# Altium schematic symbol library kmilo17pet-TI_RS232.SchLib: 1272 symbols (part 8 of 37)
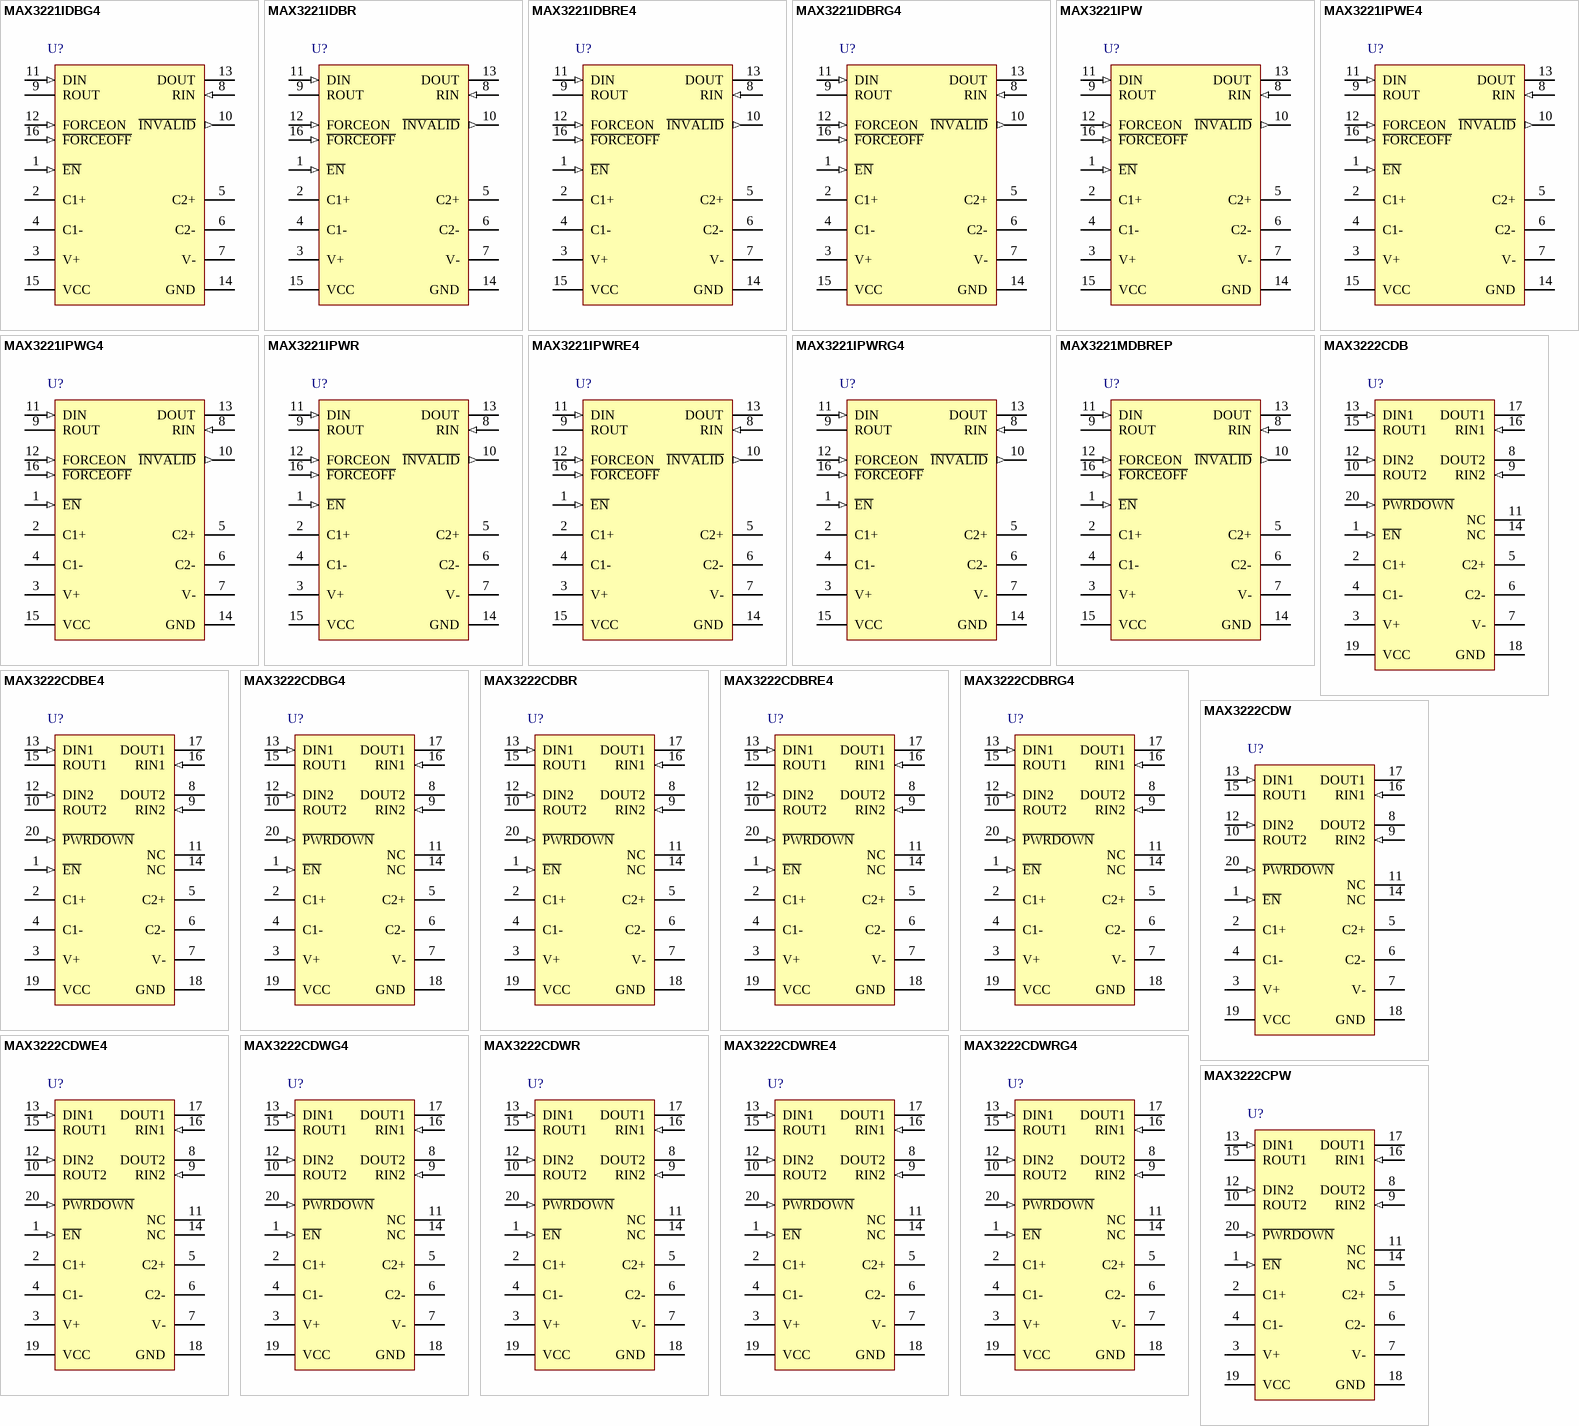
[diagram p61: symbols MAX3221IDBG4 to MAX3222CPW]

## MAX3222CDBRE4
designator U?
3-V to 5.5-V Multichannel RS-232 Line Driver / Receiver with ±15-kV ESD Protection, 0 to 70 degC, 20-Pin SSOP (DB), Green (RoHS & no Sb/Br); Drivers Per Package: 2; Supply Voltage(s)(V): 3.3 or 5.0; ESD HBM(kV): +/-15; ICC(Max)(mA): 1; Single Supply: TRUE; DatasheetVersion: SLLS408G; PackageVersion: revE, Dec-2001; PackageReference: DB20; PackageDescription: 20-Pin Plastic Small Outline Package, 7.2 x 5.3 mm Body, 0.65 mm Pitch; SubFamily: RS-232; Receivers Per Package: 2; RS-232: TRUE; ComponentLink1Description: Manufacturer URL; ComponentLink1URL: www.ti.com; ComponentLink2Description: Datasheet; ComponentLink2URL: http://www.ti.com/general/docs/lit/getliterature.tsp?genericPartNumber=MAX3222&fileType=pdf; ComponentLink3Description: Package Specification; ComponentLink3URL: http://www.ti.com/litv/pdf/msso002e
footprint TI-DB20_N (SOP, 20-Leads, Body 7.2x5.3mm, Pitch 0.65mm, IPC Medium Density)
footprint TI-DB20_L (SOP, 20-Leads, Body 7.2x5.3mm, Pitch 0.65mm, IPC High Density)
footprint TI-DB20_M (SOP, 20-Leads, Body 7.2x5.3mm, Pitch 0.65mm, IPC Low Density)
pins: 1 ~{EN} (in), 2 C1+, 3 V+ (power), 4 C1-, 5 C2+, 6 C2-, 7 V- (power), 8 DOUT2 (hiz), 9 RIN2 (in), 10 ROUT2 (hiz), 11 NC, 12 DIN2 (in), 13 DIN1 (in), 14 NC, 15 ROUT1 (hiz), 16 RIN1 (in), 17 DOUT1 (hiz), 18 GND (power), 19 VCC (power), 20 ~{PWRDOWN} (in)

## MAX3222CDBRG4
designator U?
3-V to 5.5-V Multichannel RS-232 Line Driver / Receiver with ±15-kV ESD Protection, 0 to 70 degC, 20-Pin SSOP (DB), Green (RoHS & no Sb/Br); Drivers Per Package: 2; Supply Voltage(s)(V): 3.3 or 5.0; ESD HBM(kV): +/-15; ICC(Max)(mA): 1; Single Supply: TRUE; DatasheetVersion: SLLS408G; PackageVersion: revE, Dec-2001; PackageReference: DB20; PackageDescription: 20-Pin Plastic Small Outline Package, 7.2 x 5.3 mm Body, 0.65 mm Pitch; SubFamily: RS-232; Receivers Per Package: 2; RS-232: TRUE; ComponentLink1Description: Manufacturer URL; ComponentLink1URL: www.ti.com; ComponentLink2Description: Datasheet; ComponentLink2URL: http://www.ti.com/general/docs/lit/getliterature.tsp?genericPartNumber=MAX3222&fileType=pdf; ComponentLink3Description: Package Specification; ComponentLink3URL: http://www.ti.com/litv/pdf/msso002e
footprint TI-DB20_N (SOP, 20-Leads, Body 7.2x5.3mm, Pitch 0.65mm, IPC Medium Density)
footprint TI-DB20_L (SOP, 20-Leads, Body 7.2x5.3mm, Pitch 0.65mm, IPC High Density)
footprint TI-DB20_M (SOP, 20-Leads, Body 7.2x5.3mm, Pitch 0.65mm, IPC Low Density)
pins: 1 ~{EN} (in), 2 C1+, 3 V+ (power), 4 C1-, 5 C2+, 6 C2-, 7 V- (power), 8 DOUT2 (hiz), 9 RIN2 (in), 10 ROUT2 (hiz), 11 NC, 12 DIN2 (in), 13 DIN1 (in), 14 NC, 15 ROUT1 (hiz), 16 RIN1 (in), 17 DOUT1 (hiz), 18 GND (power), 19 VCC (power), 20 ~{PWRDOWN} (in)

## MAX3222CDW
designator U?
3-V to 5.5-V Multichannel RS-232 Line Driver / Receiver with ±15-kV ESD Protection, 0 to 70 degC, 20-Pin SOIC (DW), Green (RoHS & no Sb/Br); Drivers Per Package: 2; Supply Voltage(s)(V): 3.3 or 5.0; ESD HBM(kV): +/-15; ICC(Max)(mA): 1; Single Supply: TRUE; DatasheetVersion: SLLS408G; PackageVersion: revG, Jan-2011; PackageReference: DW20; PackageDescription: 20-Pin Plastic Small Outline Integrated Circuit, 12.8 x 7.5 mm, Pitch 1.27 mm Pitch; SubFamily: RS-232; Receivers Per Package: 2; RS-232: TRUE; ComponentLink1Description: Manufacturer URL; ComponentLink1URL: www.ti.com; ComponentLink2Description: Datasheet; ComponentLink2URL: http://www.ti.com/general/docs/lit/getliterature.tsp?genericPartNumber=MAX3222&fileType=pdf; ComponentLink3Description: Package Specification; ComponentLink3URL: http://www.ti.com/litv/pdf/mpds173a
footprint TI-DW20_N (SOIC, 20-Leads, Body 12.8x7.5mm, Pitch 1.27mm, IPC Medium Density)
footprint TI-DW20_L (SOIC, 20-Leads, Body 12.8x7.5mm, Pitch 1.27mm, IPC High Density)
footprint TI-DW20_M (SOIC, 20-Leads, Body 12.8x7.5mm, Pitch 1.27mm, IPC Low Density)
pins: 1 ~{EN} (in), 2 C1+, 3 V+ (power), 4 C1-, 5 C2+, 6 C2-, 7 V- (power), 8 DOUT2 (hiz), 9 RIN2 (in), 10 ROUT2 (hiz), 11 NC, 12 DIN2 (in), 13 DIN1 (in), 14 NC, 15 ROUT1 (hiz), 16 RIN1 (in), 17 DOUT1 (hiz), 18 GND (power), 19 VCC (power), 20 ~{PWRDOWN} (in)

## MAX3222CDWE4
designator U?
3-V to 5.5-V Multichannel RS-232 Line Driver / Receiver with ±15-kV ESD Protection, 0 to 70 degC, 20-Pin SOIC (DW), Green (RoHS & no Sb/Br); Drivers Per Package: 2; Supply Voltage(s)(V): 3.3 or 5.0; ESD HBM(kV): +/-15; ICC(Max)(mA): 1; Single Supply: TRUE; DatasheetVersion: SLLS408G; PackageVersion: revG, Jan-2011; PackageReference: DW20; PackageDescription: 20-Pin Plastic Small Outline Integrated Circuit, 12.8 x 7.5 mm, Pitch 1.27 mm Pitch; SubFamily: RS-232; Receivers Per Package: 2; RS-232: TRUE; ComponentLink1Description: Manufacturer URL; ComponentLink1URL: www.ti.com; ComponentLink2Description: Datasheet; ComponentLink2URL: http://www.ti.com/general/docs/lit/getliterature.tsp?genericPartNumber=MAX3222&fileType=pdf; ComponentLink3Description: Package Specification; ComponentLink3URL: http://www.ti.com/litv/pdf/mpds173a
footprint TI-DW20_N (SOIC, 20-Leads, Body 12.8x7.5mm, Pitch 1.27mm, IPC Medium Density)
footprint TI-DW20_L (SOIC, 20-Leads, Body 12.8x7.5mm, Pitch 1.27mm, IPC High Density)
footprint TI-DW20_M (SOIC, 20-Leads, Body 12.8x7.5mm, Pitch 1.27mm, IPC Low Density)
pins: 1 ~{EN} (in), 2 C1+, 3 V+ (power), 4 C1-, 5 C2+, 6 C2-, 7 V- (power), 8 DOUT2 (hiz), 9 RIN2 (in), 10 ROUT2 (hiz), 11 NC, 12 DIN2 (in), 13 DIN1 (in), 14 NC, 15 ROUT1 (hiz), 16 RIN1 (in), 17 DOUT1 (hiz), 18 GND (power), 19 VCC (power), 20 ~{PWRDOWN} (in)

## MAX3222CDWG4
designator U?
3-V to 5.5-V Multichannel RS-232 Line Driver / Receiver with ±15-kV ESD Protection, 0 to 70 degC, 20-Pin SOIC (DW), Green (RoHS & no Sb/Br); Drivers Per Package: 2; Supply Voltage(s)(V): 3.3 or 5.0; ESD HBM(kV): +/-15; ICC(Max)(mA): 1; Single Supply: TRUE; DatasheetVersion: SLLS408G; PackageVersion: revG, Jan-2011; PackageReference: DW20; PackageDescription: 20-Pin Plastic Small Outline Integrated Circuit, 12.8 x 7.5 mm, Pitch 1.27 mm Pitch; SubFamily: RS-232; Receivers Per Package: 2; RS-232: TRUE; ComponentLink1Description: Manufacturer URL; ComponentLink1URL: www.ti.com; ComponentLink2Description: Datasheet; ComponentLink2URL: http://www.ti.com/general/docs/lit/getliterature.tsp?genericPartNumber=MAX3222&fileType=pdf; ComponentLink3Description: Package Specification; ComponentLink3URL: http://www.ti.com/litv/pdf/mpds173a
footprint TI-DW20_N (SOIC, 20-Leads, Body 12.8x7.5mm, Pitch 1.27mm, IPC Medium Density)
footprint TI-DW20_L (SOIC, 20-Leads, Body 12.8x7.5mm, Pitch 1.27mm, IPC High Density)
footprint TI-DW20_M (SOIC, 20-Leads, Body 12.8x7.5mm, Pitch 1.27mm, IPC Low Density)
pins: 1 ~{EN} (in), 2 C1+, 3 V+ (power), 4 C1-, 5 C2+, 6 C2-, 7 V- (power), 8 DOUT2 (hiz), 9 RIN2 (in), 10 ROUT2 (hiz), 11 NC, 12 DIN2 (in), 13 DIN1 (in), 14 NC, 15 ROUT1 (hiz), 16 RIN1 (in), 17 DOUT1 (hiz), 18 GND (power), 19 VCC (power), 20 ~{PWRDOWN} (in)

## MAX3222CDWR
designator U?
3-V to 5.5-V Multichannel RS-232 Line Driver / Receiver with ±15-kV ESD Protection, 0 to 70 degC, 20-Pin SOIC (DW), Green (RoHS & no Sb/Br); Drivers Per Package: 2; Supply Voltage(s)(V): 3.3 or 5.0; ESD HBM(kV): +/-15; ICC(Max)(mA): 1; Single Supply: TRUE; DatasheetVersion: SLLS408G; PackageVersion: revG, Jan-2011; PackageReference: DW20; PackageDescription: 20-Pin Plastic Small Outline Integrated Circuit, 12.8 x 7.5 mm, Pitch 1.27 mm Pitch; SubFamily: RS-232; Receivers Per Package: 2; RS-232: TRUE; ComponentLink1Description: Manufacturer URL; ComponentLink1URL: www.ti.com; ComponentLink2Description: Datasheet; ComponentLink2URL: http://www.ti.com/general/docs/lit/getliterature.tsp?genericPartNumber=MAX3222&fileType=pdf; ComponentLink3Description: Package Specification; ComponentLink3URL: http://www.ti.com/litv/pdf/mpds173a
footprint TI-DW20_N (SOIC, 20-Leads, Body 12.8x7.5mm, Pitch 1.27mm, IPC Medium Density)
footprint TI-DW20_L (SOIC, 20-Leads, Body 12.8x7.5mm, Pitch 1.27mm, IPC High Density)
footprint TI-DW20_M (SOIC, 20-Leads, Body 12.8x7.5mm, Pitch 1.27mm, IPC Low Density)
pins: 1 ~{EN} (in), 2 C1+, 3 V+ (power), 4 C1-, 5 C2+, 6 C2-, 7 V- (power), 8 DOUT2 (hiz), 9 RIN2 (in), 10 ROUT2 (hiz), 11 NC, 12 DIN2 (in), 13 DIN1 (in), 14 NC, 15 ROUT1 (hiz), 16 RIN1 (in), 17 DOUT1 (hiz), 18 GND (power), 19 VCC (power), 20 ~{PWRDOWN} (in)

## MAX3222CDWRE4
designator U?
3-V to 5.5-V Multichannel RS-232 Line Driver / Receiver with ±15-kV ESD Protection, 0 to 70 degC, 20-Pin SOIC (DW), Green (RoHS & no Sb/Br); Drivers Per Package: 2; Supply Voltage(s)(V): 3.3 or 5.0; ESD HBM(kV): +/-15; ICC(Max)(mA): 1; Single Supply: TRUE; DatasheetVersion: SLLS408G; PackageVersion: revG, Jan-2011; PackageReference: DW20; PackageDescription: 20-Pin Plastic Small Outline Integrated Circuit, 12.8 x 7.5 mm, Pitch 1.27 mm Pitch; SubFamily: RS-232; Receivers Per Package: 2; RS-232: TRUE; ComponentLink1Description: Manufacturer URL; ComponentLink1URL: www.ti.com; ComponentLink2Description: Datasheet; ComponentLink2URL: http://www.ti.com/general/docs/lit/getliterature.tsp?genericPartNumber=MAX3222&fileType=pdf; ComponentLink3Description: Package Specification; ComponentLink3URL: http://www.ti.com/litv/pdf/mpds173a
footprint TI-DW20_N (SOIC, 20-Leads, Body 12.8x7.5mm, Pitch 1.27mm, IPC Medium Density)
footprint TI-DW20_L (SOIC, 20-Leads, Body 12.8x7.5mm, Pitch 1.27mm, IPC High Density)
footprint TI-DW20_M (SOIC, 20-Leads, Body 12.8x7.5mm, Pitch 1.27mm, IPC Low Density)
pins: 1 ~{EN} (in), 2 C1+, 3 V+ (power), 4 C1-, 5 C2+, 6 C2-, 7 V- (power), 8 DOUT2 (hiz), 9 RIN2 (in), 10 ROUT2 (hiz), 11 NC, 12 DIN2 (in), 13 DIN1 (in), 14 NC, 15 ROUT1 (hiz), 16 RIN1 (in), 17 DOUT1 (hiz), 18 GND (power), 19 VCC (power), 20 ~{PWRDOWN} (in)

## MAX3222CDWRG4
designator U?
3-V to 5.5-V Multichannel RS-232 Line Driver / Receiver with ±15-kV ESD Protection, 0 to 70 degC, 20-Pin SOIC (DW), Green (RoHS & no Sb/Br); Drivers Per Package: 2; Supply Voltage(s)(V): 3.3 or 5.0; ESD HBM(kV): +/-15; ICC(Max)(mA): 1; Single Supply: TRUE; DatasheetVersion: SLLS408G; PackageVersion: revG, Jan-2011; PackageReference: DW20; PackageDescription: 20-Pin Plastic Small Outline Integrated Circuit, 12.8 x 7.5 mm, Pitch 1.27 mm Pitch; SubFamily: RS-232; Receivers Per Package: 2; RS-232: TRUE; ComponentLink1Description: Manufacturer URL; ComponentLink1URL: www.ti.com; ComponentLink2Description: Datasheet; ComponentLink2URL: http://www.ti.com/general/docs/lit/getliterature.tsp?genericPartNumber=MAX3222&fileType=pdf; ComponentLink3Description: Package Specification; ComponentLink3URL: http://www.ti.com/litv/pdf/mpds173a
footprint TI-DW20_N (SOIC, 20-Leads, Body 12.8x7.5mm, Pitch 1.27mm, IPC Medium Density)
footprint TI-DW20_L (SOIC, 20-Leads, Body 12.8x7.5mm, Pitch 1.27mm, IPC High Density)
footprint TI-DW20_M (SOIC, 20-Leads, Body 12.8x7.5mm, Pitch 1.27mm, IPC Low Density)
pins: 1 ~{EN} (in), 2 C1+, 3 V+ (power), 4 C1-, 5 C2+, 6 C2-, 7 V- (power), 8 DOUT2 (hiz), 9 RIN2 (in), 10 ROUT2 (hiz), 11 NC, 12 DIN2 (in), 13 DIN1 (in), 14 NC, 15 ROUT1 (hiz), 16 RIN1 (in), 17 DOUT1 (hiz), 18 GND (power), 19 VCC (power), 20 ~{PWRDOWN} (in)

## MAX3222CPW
designator U?
3-V to 5.5-V Multichannel RS-232 Line Driver / Receiver with ±15-kV ESD Protection, 0 to 70 degC, 20-Pin TSSOP (PW), Green (RoHS & no Sb/Br); Drivers Per Package: 2; Supply Voltage(s)(V): 3.3 or 5.0; ESD HBM(kV): +/-15; ICC(Max)(mA): 1; Single Supply: TRUE; DatasheetVersion: SLLS408G; PackageVersion: revG, Feb-2011; PackageReference: PW20; PackageDescription: 20-Pin Plastic Thin Small Outline Package 6.5 x 4.4 mm Body ,0.65 mm Pitch; SubFamily: RS-232; Receivers Per Package: 2; RS-232: TRUE; ComponentLink1Description: Manufacturer URL; ComponentLink1URL: www.ti.com; ComponentLink2Description: Datasheet; ComponentLink2URL: http://www.ti.com/general/docs/lit/getliterature.tsp?genericPartNumber=MAX3222&fileType=pdf; ComponentLink3Description: Package Specification; ComponentLink3URL: http://www.ti.com/litv/pdf/mpds362
footprint TI-PW20_N (TSOP, 20-Leads, Body 6.5x4.4mm, Pitch 0.65mm, IPC Medium Density)
footprint TI-PW20_L (TSOP, 20-Leads, Body 6.5x4.4mm, Pitch 0.65mm, IPC High Density)
footprint TI-PW20_M (TSOP, 20-Leads, Body 6.5x4.4mm, Pitch 0.65mm, IPC Low Density)
pins: 1 ~{EN} (in), 2 C1+, 3 V+ (power), 4 C1-, 5 C2+, 6 C2-, 7 V- (power), 8 DOUT2 (hiz), 9 RIN2 (in), 10 ROUT2 (hiz), 11 NC, 12 DIN2 (in), 13 DIN1 (in), 14 NC, 15 ROUT1 (hiz), 16 RIN1 (in), 17 DOUT1 (hiz), 18 GND (power), 19 VCC (power), 20 ~{PWRDOWN} (in)

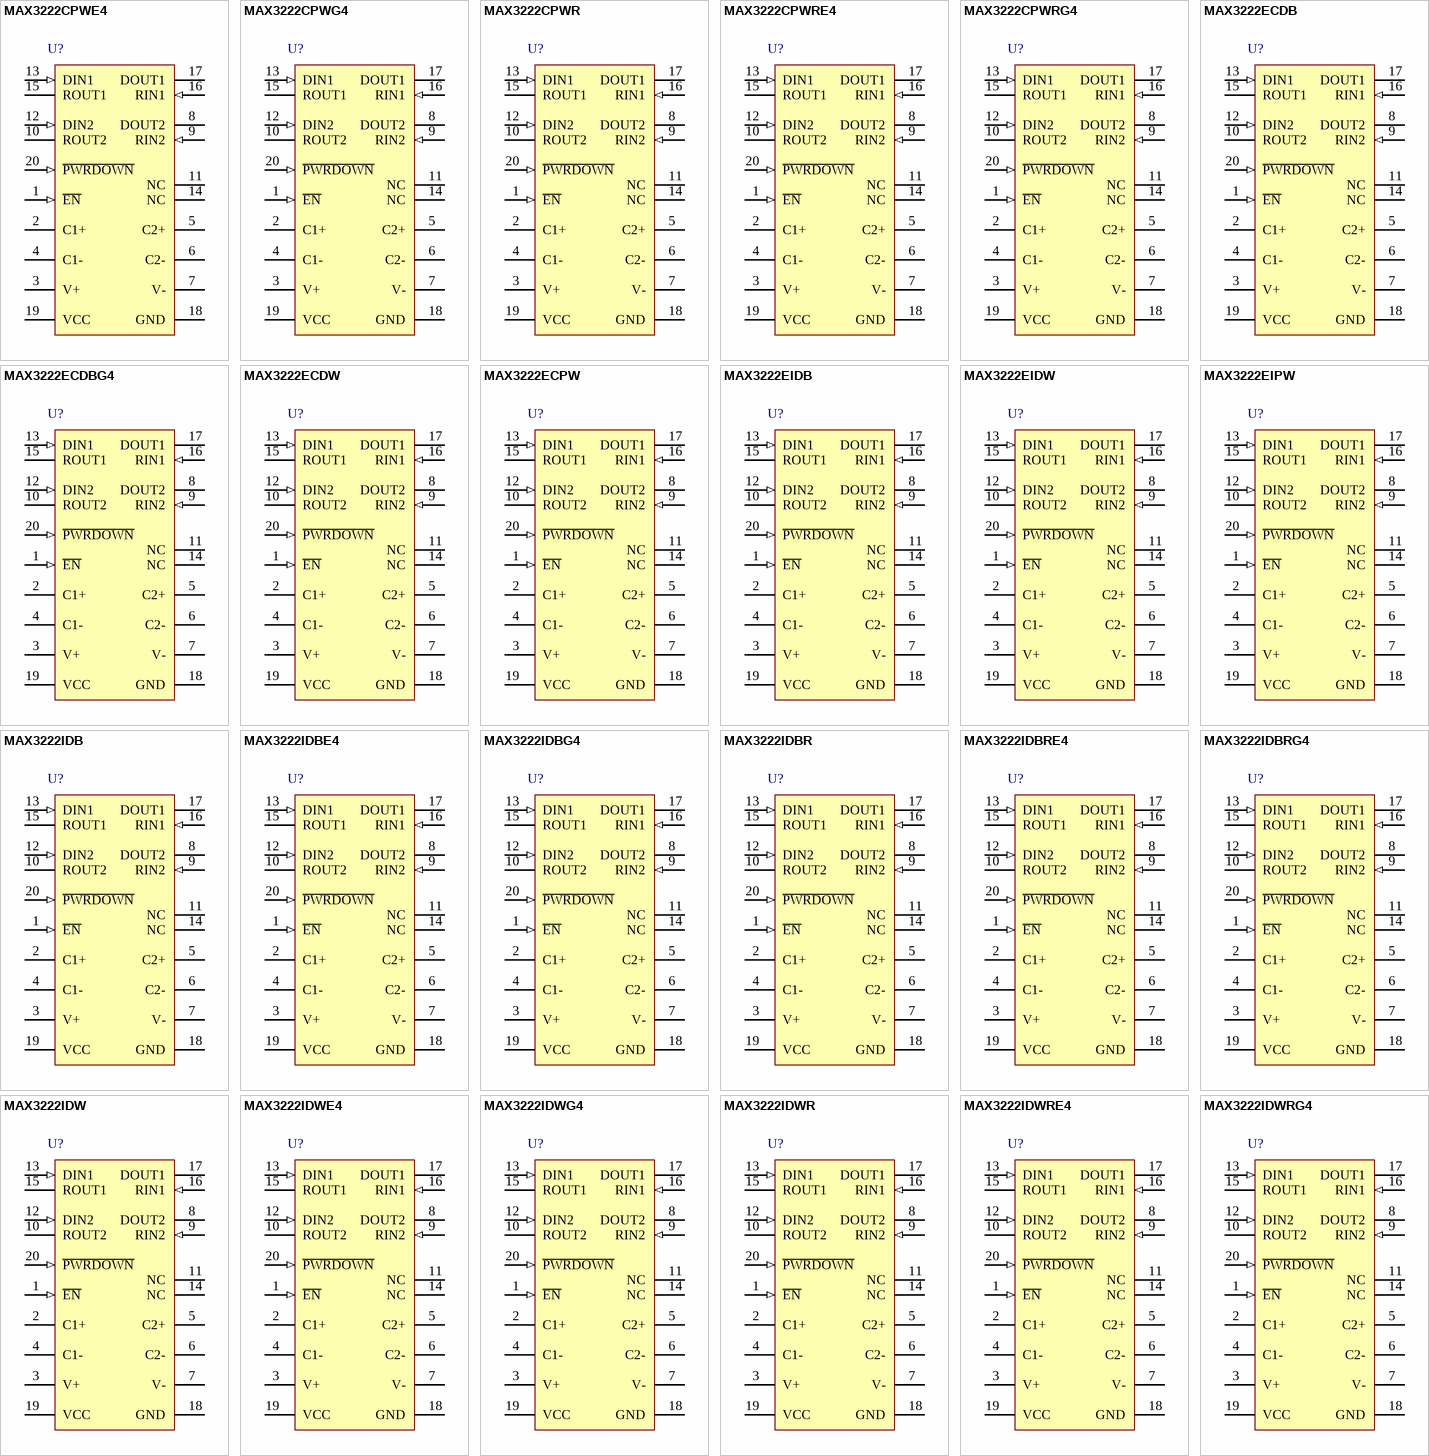
[diagram p11: symbols MAX3222CPWE4 to MAX3222IDWRG4]

## MAX3222CPWE4
designator U?
3-V to 5.5-V Multichannel RS-232 Line Driver / Receiver with ±15-kV ESD Protection, 0 to 70 degC, 20-Pin TSSOP (PW), Green (RoHS & no Sb/Br); Drivers Per Package: 2; Supply Voltage(s)(V): 3.3 or 5.0; ESD HBM(kV): +/-15; ICC(Max)(mA): 1; Single Supply: TRUE; DatasheetVersion: SLLS408G; PackageVersion: revG, Feb-2011; PackageReference: PW20; PackageDescription: 20-Pin Plastic Thin Small Outline Package 6.5 x 4.4 mm Body ,0.65 mm Pitch; SubFamily: RS-232; Receivers Per Package: 2; RS-232: TRUE; ComponentLink1Description: Manufacturer URL; ComponentLink1URL: www.ti.com; ComponentLink2Description: Datasheet; ComponentLink2URL: http://www.ti.com/general/docs/lit/getliterature.tsp?genericPartNumber=MAX3222&fileType=pdf; ComponentLink3Description: Package Specification; ComponentLink3URL: http://www.ti.com/litv/pdf/mpds362
footprint TI-PW20_N (TSOP, 20-Leads, Body 6.5x4.4mm, Pitch 0.65mm, IPC Medium Density)
footprint TI-PW20_L (TSOP, 20-Leads, Body 6.5x4.4mm, Pitch 0.65mm, IPC High Density)
footprint TI-PW20_M (TSOP, 20-Leads, Body 6.5x4.4mm, Pitch 0.65mm, IPC Low Density)
pins: 1 ~{EN} (in), 2 C1+, 3 V+ (power), 4 C1-, 5 C2+, 6 C2-, 7 V- (power), 8 DOUT2 (hiz), 9 RIN2 (in), 10 ROUT2 (hiz), 11 NC, 12 DIN2 (in), 13 DIN1 (in), 14 NC, 15 ROUT1 (hiz), 16 RIN1 (in), 17 DOUT1 (hiz), 18 GND (power), 19 VCC (power), 20 ~{PWRDOWN} (in)

## MAX3222CPWG4
designator U?
3-V to 5.5-V Multichannel RS-232 Line Driver / Receiver with ±15-kV ESD Protection, 0 to 70 degC, 20-Pin TSSOP (PW), Green (RoHS & no Sb/Br); Drivers Per Package: 2; Supply Voltage(s)(V): 3.3 or 5.0; ESD HBM(kV): +/-15; ICC(Max)(mA): 1; Single Supply: TRUE; DatasheetVersion: SLLS408G; PackageVersion: revG, Feb-2011; PackageReference: PW20; PackageDescription: 20-Pin Plastic Thin Small Outline Package 6.5 x 4.4 mm Body ,0.65 mm Pitch; SubFamily: RS-232; Receivers Per Package: 2; RS-232: TRUE; ComponentLink1Description: Manufacturer URL; ComponentLink1URL: www.ti.com; ComponentLink2Description: Datasheet; ComponentLink2URL: http://www.ti.com/general/docs/lit/getliterature.tsp?genericPartNumber=MAX3222&fileType=pdf; ComponentLink3Description: Package Specification; ComponentLink3URL: http://www.ti.com/litv/pdf/mpds362
footprint TI-PW20_N (TSOP, 20-Leads, Body 6.5x4.4mm, Pitch 0.65mm, IPC Medium Density)
footprint TI-PW20_L (TSOP, 20-Leads, Body 6.5x4.4mm, Pitch 0.65mm, IPC High Density)
footprint TI-PW20_M (TSOP, 20-Leads, Body 6.5x4.4mm, Pitch 0.65mm, IPC Low Density)
pins: 1 ~{EN} (in), 2 C1+, 3 V+ (power), 4 C1-, 5 C2+, 6 C2-, 7 V- (power), 8 DOUT2 (hiz), 9 RIN2 (in), 10 ROUT2 (hiz), 11 NC, 12 DIN2 (in), 13 DIN1 (in), 14 NC, 15 ROUT1 (hiz), 16 RIN1 (in), 17 DOUT1 (hiz), 18 GND (power), 19 VCC (power), 20 ~{PWRDOWN} (in)

## MAX3222CPWR
designator U?
3-V to 5.5-V Multichannel RS-232 Line Driver / Receiver with ±15-kV ESD Protection, 0 to 70 degC, 20-Pin TSSOP (PW), Green (RoHS & no Sb/Br); Drivers Per Package: 2; Supply Voltage(s)(V): 3.3 or 5.0; ESD HBM(kV): +/-15; ICC(Max)(mA): 1; Single Supply: TRUE; DatasheetVersion: SLLS408G; PackageVersion: revG, Feb-2011; PackageReference: PW20; PackageDescription: 20-Pin Plastic Thin Small Outline Package 6.5 x 4.4 mm Body ,0.65 mm Pitch; SubFamily: RS-232; Receivers Per Package: 2; RS-232: TRUE; ComponentLink1Description: Manufacturer URL; ComponentLink1URL: www.ti.com; ComponentLink2Description: Datasheet; ComponentLink2URL: http://www.ti.com/general/docs/lit/getliterature.tsp?genericPartNumber=MAX3222&fileType=pdf; ComponentLink3Description: Package Specification; ComponentLink3URL: http://www.ti.com/litv/pdf/mpds362
footprint TI-PW20_N (TSOP, 20-Leads, Body 6.5x4.4mm, Pitch 0.65mm, IPC Medium Density)
footprint TI-PW20_L (TSOP, 20-Leads, Body 6.5x4.4mm, Pitch 0.65mm, IPC High Density)
footprint TI-PW20_M (TSOP, 20-Leads, Body 6.5x4.4mm, Pitch 0.65mm, IPC Low Density)
pins: 1 ~{EN} (in), 2 C1+, 3 V+ (power), 4 C1-, 5 C2+, 6 C2-, 7 V- (power), 8 DOUT2 (hiz), 9 RIN2 (in), 10 ROUT2 (hiz), 11 NC, 12 DIN2 (in), 13 DIN1 (in), 14 NC, 15 ROUT1 (hiz), 16 RIN1 (in), 17 DOUT1 (hiz), 18 GND (power), 19 VCC (power), 20 ~{PWRDOWN} (in)

## MAX3222CPWRE4
designator U?
3-V to 5.5-V Multichannel RS-232 Line Driver / Receiver with ±15-kV ESD Protection, 0 to 70 degC, 20-Pin TSSOP (PW), Green (RoHS & no Sb/Br); Drivers Per Package: 2; Supply Voltage(s)(V): 3.3 or 5.0; ESD HBM(kV): +/-15; ICC(Max)(mA): 1; Single Supply: TRUE; DatasheetVersion: SLLS408G; PackageVersion: revG, Feb-2011; PackageReference: PW20; PackageDescription: 20-Pin Plastic Thin Small Outline Package 6.5 x 4.4 mm Body ,0.65 mm Pitch; SubFamily: RS-232; Receivers Per Package: 2; RS-232: TRUE; ComponentLink1Description: Manufacturer URL; ComponentLink1URL: www.ti.com; ComponentLink2Description: Datasheet; ComponentLink2URL: http://www.ti.com/general/docs/lit/getliterature.tsp?genericPartNumber=MAX3222&fileType=pdf; ComponentLink3Description: Package Specification; ComponentLink3URL: http://www.ti.com/litv/pdf/mpds362
footprint TI-PW20_N (TSOP, 20-Leads, Body 6.5x4.4mm, Pitch 0.65mm, IPC Medium Density)
footprint TI-PW20_L (TSOP, 20-Leads, Body 6.5x4.4mm, Pitch 0.65mm, IPC High Density)
footprint TI-PW20_M (TSOP, 20-Leads, Body 6.5x4.4mm, Pitch 0.65mm, IPC Low Density)
pins: 1 ~{EN} (in), 2 C1+, 3 V+ (power), 4 C1-, 5 C2+, 6 C2-, 7 V- (power), 8 DOUT2 (hiz), 9 RIN2 (in), 10 ROUT2 (hiz), 11 NC, 12 DIN2 (in), 13 DIN1 (in), 14 NC, 15 ROUT1 (hiz), 16 RIN1 (in), 17 DOUT1 (hiz), 18 GND (power), 19 VCC (power), 20 ~{PWRDOWN} (in)

## MAX3222CPWRG4
designator U?
3-V to 5.5-V Multichannel RS-232 Line Driver / Receiver with ±15-kV ESD Protection, 0 to 70 degC, 20-Pin TSSOP (PW), Green (RoHS & no Sb/Br); Drivers Per Package: 2; Supply Voltage(s)(V): 3.3 or 5.0; ESD HBM(kV): +/-15; ICC(Max)(mA): 1; Single Supply: TRUE; DatasheetVersion: SLLS408G; PackageVersion: revG, Feb-2011; PackageReference: PW20; PackageDescription: 20-Pin Plastic Thin Small Outline Package 6.5 x 4.4 mm Body ,0.65 mm Pitch; SubFamily: RS-232; Receivers Per Package: 2; RS-232: TRUE; ComponentLink1Description: Manufacturer URL; ComponentLink1URL: www.ti.com; ComponentLink2Description: Datasheet; ComponentLink2URL: http://www.ti.com/general/docs/lit/getliterature.tsp?genericPartNumber=MAX3222&fileType=pdf; ComponentLink3Description: Package Specification; ComponentLink3URL: http://www.ti.com/litv/pdf/mpds362
footprint TI-PW20_N (TSOP, 20-Leads, Body 6.5x4.4mm, Pitch 0.65mm, IPC Medium Density)
footprint TI-PW20_L (TSOP, 20-Leads, Body 6.5x4.4mm, Pitch 0.65mm, IPC High Density)
footprint TI-PW20_M (TSOP, 20-Leads, Body 6.5x4.4mm, Pitch 0.65mm, IPC Low Density)
pins: 1 ~{EN} (in), 2 C1+, 3 V+ (power), 4 C1-, 5 C2+, 6 C2-, 7 V- (power), 8 DOUT2 (hiz), 9 RIN2 (in), 10 ROUT2 (hiz), 11 NC, 12 DIN2 (in), 13 DIN1 (in), 14 NC, 15 ROUT1 (hiz), 16 RIN1 (in), 17 DOUT1 (hiz), 18 GND (power), 19 VCC (power), 20 ~{PWRDOWN} (in)

## MAX3222ECDB
designator U?
3-V to 5.5-V Multichannel RS-232 Line Driver / Receiver with ±15-kV ESD Protection, 0 to 70 degC , 20-Pin SSOP (DB), Green (RoHS & no Sb/Br); Drivers Per Package: 2; Supply Voltage(s)(V): 3.3 or 5.0; ESD HBM(kV): +/-15; ICC(Max)(mA): 1; Single Supply: TRUE; DatasheetVersion: SLLS708A; PackageVersion: revE, Dec-2001; PackageReference: DB20; PackageDescription: 20-Pin Plastic Small Outline Package, 7.2 x 5.3 mm Body, 0.65 mm Pitch; SubFamily: RS-232; Receivers Per Package: 2; RS-232: TRUE; IEC-61000-4-2 SUPPORT: TRUE; ComponentLink1Description: Manufacturer URL; ComponentLink1URL: www.ti.com; ComponentLink2Description: Datasheet; ComponentLink2URL: http://www.ti.com/general/docs/lit/getliterature.tsp?genericPartNumber=MAX3222E&fileType=pdf; ComponentLink3Description: Package Specification; ComponentLink3URL: http://www.ti.com/litv/pdf/msso002e
footprint TI-DB20_N (SOP, 20-Leads, Body 7.2x5.3mm, Pitch 0.65mm, IPC Medium Density)
footprint TI-DB20_L (SOP, 20-Leads, Body 7.2x5.3mm, Pitch 0.65mm, IPC High Density)
footprint TI-DB20_M (SOP, 20-Leads, Body 7.2x5.3mm, Pitch 0.65mm, IPC Low Density)
pins: 1 ~{EN} (in), 2 C1+, 3 V+ (power), 4 C1-, 5 C2+, 6 C2-, 7 V- (power), 8 DOUT2 (hiz), 9 RIN2 (in), 10 ROUT2 (hiz), 11 NC, 12 DIN2 (in), 13 DIN1 (in), 14 NC, 15 ROUT1 (hiz), 16 RIN1 (in), 17 DOUT1 (hiz), 18 GND (power), 19 VCC (power), 20 ~{PWRDOWN} (in)

## MAX3222ECDBG4
designator U?
3-V to 5.5-V Multichannel RS-232 Line Driver / Receiver with ±15-kV ESD Protection, 0 to 70 degC, 20-Pin SSOP (DB), Green (RoHS & no Sb/Br); Drivers Per Package: 2; Supply Voltage(s)(V): 3.3 or 5.0; ESD HBM(kV): +/-15; ICC(Max)(mA): 1; Single Supply: TRUE; DatasheetVersion: SLLS708A; PackageVersion: revE, Dec-2001; PackageReference: DB20; PackageDescription: 20-Pin Plastic Small Outline Package, 7.2 x 5.3 mm Body, 0.65 mm Pitch; SubFamily: RS-232; Receivers Per Package: 2; RS-232: TRUE; IEC-61000-4-2 SUPPORT: TRUE; ComponentLink1Description: Manufacturer URL; ComponentLink1URL: www.ti.com; ComponentLink2Description: Datasheet; ComponentLink2URL: http://www.ti.com/general/docs/lit/getliterature.tsp?genericPartNumber=MAX3222E&fileType=pdf; ComponentLink3Description: Package Specification; ComponentLink3URL: http://www.ti.com/litv/pdf/msso002e
footprint TI-DB20_N (SOP, 20-Leads, Body 7.2x5.3mm, Pitch 0.65mm, IPC Medium Density)
footprint TI-DB20_L (SOP, 20-Leads, Body 7.2x5.3mm, Pitch 0.65mm, IPC High Density)
footprint TI-DB20_M (SOP, 20-Leads, Body 7.2x5.3mm, Pitch 0.65mm, IPC Low Density)
pins: 1 ~{EN} (in), 2 C1+, 3 V+ (power), 4 C1-, 5 C2+, 6 C2-, 7 V- (power), 8 DOUT2 (hiz), 9 RIN2 (in), 10 ROUT2 (hiz), 11 NC, 12 DIN2 (in), 13 DIN1 (in), 14 NC, 15 ROUT1 (hiz), 16 RIN1 (in), 17 DOUT1 (hiz), 18 GND (power), 19 VCC (power), 20 ~{PWRDOWN} (in)

## MAX3222ECDW
designator U?
3-V to 5.5-V Multichannel RS-232 Line Driver / Receiver with ±15-kV ESD Protection, 0 to 70 degC, 20-Pin SOIC (DW), Green (RoHS & no Sb/Br); Drivers Per Package: 2; Supply Voltage(s)(V): 3.3 or 5.0; ESD HBM(kV): +/-15; ICC(Max)(mA): 1; Single Supply: TRUE; DatasheetVersion: SLLS708A; PackageVersion: revG, Jan-2011; PackageReference: DW20; PackageDescription: 20-Pin Plastic Small Outline Integrated Circuit, 12.8 x 7.5 mm, Pitch 1.27 mm Pitch; SubFamily: RS-232; Receivers Per Package: 2; RS-232: TRUE; IEC-61000-4-2 SUPPORT: TRUE; ComponentLink1Description: Manufacturer URL; ComponentLink1URL: www.ti.com; ComponentLink2Description: Datasheet; ComponentLink2URL: http://www.ti.com/general/docs/lit/getliterature.tsp?genericPartNumber=MAX3222E&fileType=pdf; ComponentLink3Description: Package Specification; ComponentLink3URL: http://www.ti.com/litv/pdf/mpds173a
footprint TI-DW20_N (SOIC, 20-Leads, Body 12.8x7.5mm, Pitch 1.27mm, IPC Medium Density)
footprint TI-DW20_L (SOIC, 20-Leads, Body 12.8x7.5mm, Pitch 1.27mm, IPC High Density)
footprint TI-DW20_M (SOIC, 20-Leads, Body 12.8x7.5mm, Pitch 1.27mm, IPC Low Density)
pins: 1 ~{EN} (in), 2 C1+, 3 V+ (power), 4 C1-, 5 C2+, 6 C2-, 7 V- (power), 8 DOUT2 (hiz), 9 RIN2 (in), 10 ROUT2 (hiz), 11 NC, 12 DIN2 (in), 13 DIN1 (in), 14 NC, 15 ROUT1 (hiz), 16 RIN1 (in), 17 DOUT1 (hiz), 18 GND (power), 19 VCC (power), 20 ~{PWRDOWN} (in)

## MAX3222ECPW
designator U?
3-V to 5.5-V Multichannel RS-232 Line Driver / Receiver with ±15-kV ESD Protection, 0 to 70 degC, 20-Pin TSSOP (PW), Green (RoHS & no Sb/Br); Drivers Per Package: 2; Supply Voltage(s)(V): 3.3 or 5.0; ESD HBM(kV): +/-15; ICC(Max)(mA): 1; Single Supply: TRUE; DatasheetVersion: SLLS708A; PackageVersion: revG, Feb-2011; PackageReference: PW20; PackageDescription: 20-Pin Plastic Thin Small Outline Package 6.5 x 4.4 mm Body ,0.65 mm Pitch; SubFamily: RS-232; Receivers Per Package: 2; RS-232: TRUE; IEC-61000-4-2 SUPPORT: TRUE; ComponentLink1Description: Manufacturer URL; ComponentLink1URL: www.ti.com; ComponentLink2Description: Datasheet; ComponentLink2URL: http://www.ti.com/general/docs/lit/getliterature.tsp?genericPartNumber=MAX3222E&fileType=pdf; ComponentLink3Description: Package Specification; ComponentLink3URL: http://www.ti.com/litv/pdf/mpds362
footprint TI-PW20_N (TSOP, 20-Leads, Body 6.5x4.4mm, Pitch 0.65mm, IPC Medium Density)
footprint TI-PW20_L (TSOP, 20-Leads, Body 6.5x4.4mm, Pitch 0.65mm, IPC High Density)
footprint TI-PW20_M (TSOP, 20-Leads, Body 6.5x4.4mm, Pitch 0.65mm, IPC Low Density)
pins: 1 ~{EN} (in), 2 C1+, 3 V+ (power), 4 C1-, 5 C2+, 6 C2-, 7 V- (power), 8 DOUT2 (hiz), 9 RIN2 (in), 10 ROUT2 (hiz), 11 NC, 12 DIN2 (in), 13 DIN1 (in), 14 NC, 15 ROUT1 (hiz), 16 RIN1 (in), 17 DOUT1 (hiz), 18 GND (power), 19 VCC (power), 20 ~{PWRDOWN} (in)

## MAX3222EIDB
designator U?
3-V to 5.5-V Multichannel RS-232 Line Driver / Receiver with ±15-kV ESD Protection, -40 to 85 degC, 20-Pin SSOP (DB), Green (RoHS & no Sb/Br); Drivers Per Package: 2; Supply Voltage(s)(V): 3.3 or 5.0; ESD HBM(kV): +/-15; ICC(Max)(mA): 1; Single Supply: TRUE; DatasheetVersion: SLLS708A; PackageVersion: revE, Dec-2001; PackageReference: DB20; PackageDescription: 20-Pin Plastic Small Outline Package, 7.2 x 5.3 mm Body, 0.65 mm Pitch; SubFamily: RS-232; Receivers Per Package: 2; RS-232: TRUE; IEC-61000-4-2 SUPPORT: TRUE; ComponentLink1Description: Manufacturer URL; ComponentLink1URL: www.ti.com; ComponentLink2Description: Datasheet; ComponentLink2URL: http://www.ti.com/general/docs/lit/getliterature.tsp?genericPartNumber=MAX3222E&fileType=pdf; ComponentLink3Description: Package Specification; ComponentLink3URL: http://www.ti.com/litv/pdf/msso002e
footprint TI-DB20_N (SOP, 20-Leads, Body 7.2x5.3mm, Pitch 0.65mm, IPC Medium Density)
footprint TI-DB20_L (SOP, 20-Leads, Body 7.2x5.3mm, Pitch 0.65mm, IPC High Density)
footprint TI-DB20_M (SOP, 20-Leads, Body 7.2x5.3mm, Pitch 0.65mm, IPC Low Density)
pins: 1 ~{EN} (in), 2 C1+, 3 V+ (power), 4 C1-, 5 C2+, 6 C2-, 7 V- (power), 8 DOUT2 (hiz), 9 RIN2 (in), 10 ROUT2 (hiz), 11 NC, 12 DIN2 (in), 13 DIN1 (in), 14 NC, 15 ROUT1 (hiz), 16 RIN1 (in), 17 DOUT1 (hiz), 18 GND (power), 19 VCC (power), 20 ~{PWRDOWN} (in)

## MAX3222EIDW
designator U?
3-V to 5.5-V Multichannel RS-232 Line Driver / Receiver with ±15-kV ESD Protection, -40 to 85 degC, 20-Pin SOIC (DW), Green (RoHS & no Sb/Br); Drivers Per Package: 2; Supply Voltage(s)(V): 3.3 or 5.0; ESD HBM(kV): +/-15; ICC(Max)(mA): 1; Single Supply: TRUE; DatasheetVersion: SLLS708A; PackageVersion: revG, Jan-2011; PackageReference: DW20; PackageDescription: 20-Pin Plastic Small Outline Integrated Circuit, 12.8 x 7.5 mm, Pitch 1.27 mm Pitch; SubFamily: RS-232; Receivers Per Package: 2; RS-232: TRUE; IEC-61000-4-2 SUPPORT: TRUE; ComponentLink1Description: Manufacturer URL; ComponentLink1URL: www.ti.com; ComponentLink2Description: Datasheet; ComponentLink2URL: http://www.ti.com/general/docs/lit/getliterature.tsp?genericPartNumber=MAX3222E&fileType=pdf; ComponentLink3Description: Package Specification; ComponentLink3URL: http://www.ti.com/litv/pdf/mpds173a
footprint TI-DW20_N (SOIC, 20-Leads, Body 12.8x7.5mm, Pitch 1.27mm, IPC Medium Density)
footprint TI-DW20_L (SOIC, 20-Leads, Body 12.8x7.5mm, Pitch 1.27mm, IPC High Density)
footprint TI-DW20_M (SOIC, 20-Leads, Body 12.8x7.5mm, Pitch 1.27mm, IPC Low Density)
pins: 1 ~{EN} (in), 2 C1+, 3 V+ (power), 4 C1-, 5 C2+, 6 C2-, 7 V- (power), 8 DOUT2 (hiz), 9 RIN2 (in), 10 ROUT2 (hiz), 11 NC, 12 DIN2 (in), 13 DIN1 (in), 14 NC, 15 ROUT1 (hiz), 16 RIN1 (in), 17 DOUT1 (hiz), 18 GND (power), 19 VCC (power), 20 ~{PWRDOWN} (in)

## MAX3222EIPW
designator U?
3-V to 5.5-V Multichannel RS-232 Line Driver / Receiver with ±15-kV ESD Protection, -40 to 85 degC, 20-Pin TSSOP (PW), Green (RoHS & no Sb/Br); Drivers Per Package: 2; Supply Voltage(s)(V): 3.3 or 5.0; ESD HBM(kV): +/-15; ICC(Max)(mA): 1; Single Supply: TRUE; DatasheetVersion: SLLS708A; PackageVersion: revG, Feb-2011; PackageReference: PW20; PackageDescription: 20-Pin Plastic Thin Small Outline Package 6.5 x 4.4 mm Body ,0.65 mm Pitch; SubFamily: RS-232; Receivers Per Package: 2; RS-232: TRUE; IEC-61000-4-2 SUPPORT: TRUE; ComponentLink1Description: Manufacturer URL; ComponentLink1URL: www.ti.com; ComponentLink2Description: Datasheet; ComponentLink2URL: http://www.ti.com/general/docs/lit/getliterature.tsp?genericPartNumber=MAX3222E&fileType=pdf; ComponentLink3Description: Package Specification; ComponentLink3URL: http://www.ti.com/litv/pdf/mpds362
footprint TI-PW20_N (TSOP, 20-Leads, Body 6.5x4.4mm, Pitch 0.65mm, IPC Medium Density)
footprint TI-PW20_L (TSOP, 20-Leads, Body 6.5x4.4mm, Pitch 0.65mm, IPC High Density)
footprint TI-PW20_M (TSOP, 20-Leads, Body 6.5x4.4mm, Pitch 0.65mm, IPC Low Density)
pins: 1 ~{EN} (in), 2 C1+, 3 V+ (power), 4 C1-, 5 C2+, 6 C2-, 7 V- (power), 8 DOUT2 (hiz), 9 RIN2 (in), 10 ROUT2 (hiz), 11 NC, 12 DIN2 (in), 13 DIN1 (in), 14 NC, 15 ROUT1 (hiz), 16 RIN1 (in), 17 DOUT1 (hiz), 18 GND (power), 19 VCC (power), 20 ~{PWRDOWN} (in)

## MAX3222IDB
designator U?
3-V to 5.5-V Multichannel RS-232 Line Driver / Receiver with ±15-kV ESD Protection, -40 to 85 degC, 20-Pin SSOP (DB), Green (RoHS & no Sb/Br); Drivers Per Package: 2; Supply Voltage(s)(V): 3.3 or 5.0; ESD HBM(kV): +/-15; ICC(Max)(mA): 1; Single Supply: TRUE; DatasheetVersion: SLLS408G; PackageVersion: revE, Dec-2001; PackageReference: DB20; PackageDescription: 20-Pin Plastic Small Outline Package, 7.2 x 5.3 mm Body, 0.65 mm Pitch; SubFamily: RS-232; Receivers Per Package: 2; RS-232: TRUE; ComponentLink1Description: Manufacturer URL; ComponentLink1URL: www.ti.com; ComponentLink2Description: Datasheet; ComponentLink2URL: http://www.ti.com/general/docs/lit/getliterature.tsp?genericPartNumber=MAX3222&fileType=pdf; ComponentLink3Description: Package Specification; ComponentLink3URL: http://www.ti.com/litv/pdf/msso002e
footprint TI-DB20_N (SOP, 20-Leads, Body 7.2x5.3mm, Pitch 0.65mm, IPC Medium Density)
footprint TI-DB20_L (SOP, 20-Leads, Body 7.2x5.3mm, Pitch 0.65mm, IPC High Density)
footprint TI-DB20_M (SOP, 20-Leads, Body 7.2x5.3mm, Pitch 0.65mm, IPC Low Density)
pins: 1 ~{EN} (in), 2 C1+, 3 V+ (power), 4 C1-, 5 C2+, 6 C2-, 7 V- (power), 8 DOUT2 (hiz), 9 RIN2 (in), 10 ROUT2 (hiz), 11 NC, 12 DIN2 (in), 13 DIN1 (in), 14 NC, 15 ROUT1 (hiz), 16 RIN1 (in), 17 DOUT1 (hiz), 18 GND (power), 19 VCC (power), 20 ~{PWRDOWN} (in)

## MAX3222IDBE4
designator U?
3-V to 5.5-V Multichannel RS-232 Line Driver / Receiver with ±15-kV ESD Protection, -40 to 85 degC, 20-Pin SSOP (DB), Green (RoHS & no Sb/Br); Drivers Per Package: 2; Supply Voltage(s)(V): 3.3 or 5.0; ESD HBM(kV): +/-15; ICC(Max)(mA): 1; Single Supply: TRUE; DatasheetVersion: SLLS408G; PackageVersion: revE, Dec-2001; PackageReference: DB20; PackageDescription: 20-Pin Plastic Small Outline Package, 7.2 x 5.3 mm Body, 0.65 mm Pitch; SubFamily: RS-232; Receivers Per Package: 2; RS-232: TRUE; ComponentLink1Description: Manufacturer URL; ComponentLink1URL: www.ti.com; ComponentLink2Description: Datasheet; ComponentLink2URL: http://www.ti.com/general/docs/lit/getliterature.tsp?genericPartNumber=MAX3222&fileType=pdf; ComponentLink3Description: Package Specification; ComponentLink3URL: http://www.ti.com/litv/pdf/msso002e
footprint TI-DB20_N (SOP, 20-Leads, Body 7.2x5.3mm, Pitch 0.65mm, IPC Medium Density)
footprint TI-DB20_L (SOP, 20-Leads, Body 7.2x5.3mm, Pitch 0.65mm, IPC High Density)
footprint TI-DB20_M (SOP, 20-Leads, Body 7.2x5.3mm, Pitch 0.65mm, IPC Low Density)
pins: 1 ~{EN} (in), 2 C1+, 3 V+ (power), 4 C1-, 5 C2+, 6 C2-, 7 V- (power), 8 DOUT2 (hiz), 9 RIN2 (in), 10 ROUT2 (hiz), 11 NC, 12 DIN2 (in), 13 DIN1 (in), 14 NC, 15 ROUT1 (hiz), 16 RIN1 (in), 17 DOUT1 (hiz), 18 GND (power), 19 VCC (power), 20 ~{PWRDOWN} (in)

## MAX3222IDBG4
designator U?
3-V to 5.5-V Multichannel RS-232 Line Driver / Receiver with ±15-kV ESD Protection, -40 to 85 degC, 20-Pin SSOP (DB), Green (RoHS & no Sb/Br); Drivers Per Package: 2; Supply Voltage(s)(V): 3.3 or 5.0; ESD HBM(kV): +/-15; ICC(Max)(mA): 1; Single Supply: TRUE; DatasheetVersion: SLLS408G; PackageVersion: revE, Dec-2001; PackageReference: DB20; PackageDescription: 20-Pin Plastic Small Outline Package, 7.2 x 5.3 mm Body, 0.65 mm Pitch; SubFamily: RS-232; Receivers Per Package: 2; RS-232: TRUE; ComponentLink1Description: Manufacturer URL; ComponentLink1URL: www.ti.com; ComponentLink2Description: Datasheet; ComponentLink2URL: http://www.ti.com/general/docs/lit/getliterature.tsp?genericPartNumber=MAX3222&fileType=pdf; ComponentLink3Description: Package Specification; ComponentLink3URL: http://www.ti.com/litv/pdf/msso002e
footprint TI-DB20_N (SOP, 20-Leads, Body 7.2x5.3mm, Pitch 0.65mm, IPC Medium Density)
footprint TI-DB20_L (SOP, 20-Leads, Body 7.2x5.3mm, Pitch 0.65mm, IPC High Density)
footprint TI-DB20_M (SOP, 20-Leads, Body 7.2x5.3mm, Pitch 0.65mm, IPC Low Density)
pins: 1 ~{EN} (in), 2 C1+, 3 V+ (power), 4 C1-, 5 C2+, 6 C2-, 7 V- (power), 8 DOUT2 (hiz), 9 RIN2 (in), 10 ROUT2 (hiz), 11 NC, 12 DIN2 (in), 13 DIN1 (in), 14 NC, 15 ROUT1 (hiz), 16 RIN1 (in), 17 DOUT1 (hiz), 18 GND (power), 19 VCC (power), 20 ~{PWRDOWN} (in)

## MAX3222IDBR
designator U?
3-V to 5.5-V Multichannel RS-232 Line Driver / Receiver with ±15-kV ESD Protection, -40 to 85 degC, 20-Pin SSOP (DB), Green (RoHS & no Sb/Br); Drivers Per Package: 2; Supply Voltage(s)(V): 3.3 or 5.0; ESD HBM(kV): +/-15; ICC(Max)(mA): 1; Single Supply: TRUE; DatasheetVersion: SLLS408G; PackageVersion: revE, Dec-2001; PackageReference: DB20; PackageDescription: 20-Pin Plastic Small Outline Package, 7.2 x 5.3 mm Body, 0.65 mm Pitch; SubFamily: RS-232; Receivers Per Package: 2; RS-232: TRUE; ComponentLink1Description: Manufacturer URL; ComponentLink1URL: www.ti.com; ComponentLink2Description: Datasheet; ComponentLink2URL: http://www.ti.com/general/docs/lit/getliterature.tsp?genericPartNumber=MAX3222&fileType=pdf; ComponentLink3Description: Package Specification; ComponentLink3URL: http://www.ti.com/litv/pdf/msso002e
footprint TI-DB20_N (SOP, 20-Leads, Body 7.2x5.3mm, Pitch 0.65mm, IPC Medium Density)
footprint TI-DB20_L (SOP, 20-Leads, Body 7.2x5.3mm, Pitch 0.65mm, IPC High Density)
footprint TI-DB20_M (SOP, 20-Leads, Body 7.2x5.3mm, Pitch 0.65mm, IPC Low Density)
pins: 1 ~{EN} (in), 2 C1+, 3 V+ (power), 4 C1-, 5 C2+, 6 C2-, 7 V- (power), 8 DOUT2 (hiz), 9 RIN2 (in), 10 ROUT2 (hiz), 11 NC, 12 DIN2 (in), 13 DIN1 (in), 14 NC, 15 ROUT1 (hiz), 16 RIN1 (in), 17 DOUT1 (hiz), 18 GND (power), 19 VCC (power), 20 ~{PWRDOWN} (in)

## MAX3222IDBRE4
designator U?
3-V to 5.5-V Multichannel RS-232 Line Driver / Receiver with ±15-kV ESD Protection, -40 to 85 degC, 20-Pin SSOP (DB), Green (RoHS & no Sb/Br); Drivers Per Package: 2; Supply Voltage(s)(V): 3.3 or 5.0; ESD HBM(kV): +/-15; ICC(Max)(mA): 1; Single Supply: TRUE; DatasheetVersion: SLLS408G; PackageVersion: revE, Dec-2001; PackageReference: DB20; PackageDescription: 20-Pin Plastic Small Outline Package, 7.2 x 5.3 mm Body, 0.65 mm Pitch; SubFamily: RS-232; Receivers Per Package: 2; RS-232: TRUE; ComponentLink1Description: Manufacturer URL; ComponentLink1URL: www.ti.com; ComponentLink2Description: Datasheet; ComponentLink2URL: http://www.ti.com/general/docs/lit/getliterature.tsp?genericPartNumber=MAX3222&fileType=pdf; ComponentLink3Description: Package Specification; ComponentLink3URL: http://www.ti.com/litv/pdf/msso002e
footprint TI-DB20_N (SOP, 20-Leads, Body 7.2x5.3mm, Pitch 0.65mm, IPC Medium Density)
footprint TI-DB20_L (SOP, 20-Leads, Body 7.2x5.3mm, Pitch 0.65mm, IPC High Density)
footprint TI-DB20_M (SOP, 20-Leads, Body 7.2x5.3mm, Pitch 0.65mm, IPC Low Density)
pins: 1 ~{EN} (in), 2 C1+, 3 V+ (power), 4 C1-, 5 C2+, 6 C2-, 7 V- (power), 8 DOUT2 (hiz), 9 RIN2 (in), 10 ROUT2 (hiz), 11 NC, 12 DIN2 (in), 13 DIN1 (in), 14 NC, 15 ROUT1 (hiz), 16 RIN1 (in), 17 DOUT1 (hiz), 18 GND (power), 19 VCC (power), 20 ~{PWRDOWN} (in)

## MAX3222IDBRG4
designator U?
3-V to 5.5-V Multichannel RS-232 Line Driver / Receiver with ±15-kV ESD Protection, -40 to 85 degC, 20-Pin SSOP (DB), Green (RoHS & no Sb/Br); Drivers Per Package: 2; Supply Voltage(s)(V): 3.3 or 5.0; ESD HBM(kV): +/-15; ICC(Max)(mA): 1; Single Supply: TRUE; DatasheetVersion: SLLS408G; PackageVersion: revE, Dec-2001; PackageReference: DB20; PackageDescription: 20-Pin Plastic Small Outline Package, 7.2 x 5.3 mm Body, 0.65 mm Pitch; SubFamily: RS-232; Receivers Per Package: 2; RS-232: TRUE; ComponentLink1Description: Manufacturer URL; ComponentLink1URL: www.ti.com; ComponentLink2Description: Datasheet; ComponentLink2URL: http://www.ti.com/general/docs/lit/getliterature.tsp?genericPartNumber=MAX3222&fileType=pdf; ComponentLink3Description: Package Specification; ComponentLink3URL: http://www.ti.com/litv/pdf/msso002e
footprint TI-DB20_N (SOP, 20-Leads, Body 7.2x5.3mm, Pitch 0.65mm, IPC Medium Density)
footprint TI-DB20_L (SOP, 20-Leads, Body 7.2x5.3mm, Pitch 0.65mm, IPC High Density)
footprint TI-DB20_M (SOP, 20-Leads, Body 7.2x5.3mm, Pitch 0.65mm, IPC Low Density)
pins: 1 ~{EN} (in), 2 C1+, 3 V+ (power), 4 C1-, 5 C2+, 6 C2-, 7 V- (power), 8 DOUT2 (hiz), 9 RIN2 (in), 10 ROUT2 (hiz), 11 NC, 12 DIN2 (in), 13 DIN1 (in), 14 NC, 15 ROUT1 (hiz), 16 RIN1 (in), 17 DOUT1 (hiz), 18 GND (power), 19 VCC (power), 20 ~{PWRDOWN} (in)

## MAX3222IDW
designator U?
3-V to 5.5-V Multichannel RS-232 Line Driver / Receiver with ±15-kV ESD Protection, -40 to 85 degC, 20-Pin SOIC (DW), Green (RoHS & no Sb/Br); Drivers Per Package: 2; Supply Voltage(s)(V): 3.3 or 5.0; ESD HBM(kV): +/-15; ICC(Max)(mA): 1; Single Supply: TRUE; DatasheetVersion: SLLS408G; PackageVersion: revG, Jan-2011; PackageReference: DW20; PackageDescription: 20-Pin Plastic Small Outline Integrated Circuit, 12.8 x 7.5 mm, Pitch 1.27 mm Pitch; SubFamily: RS-232; Receivers Per Package: 2; RS-232: TRUE; ComponentLink1Description: Manufacturer URL; ComponentLink1URL: www.ti.com; ComponentLink2Description: Datasheet; ComponentLink2URL: http://www.ti.com/general/docs/lit/getliterature.tsp?genericPartNumber=MAX3222&fileType=pdf; ComponentLink3Description: Package Specification; ComponentLink3URL: http://www.ti.com/litv/pdf/mpds173a
footprint TI-DW20_N (SOIC, 20-Leads, Body 12.8x7.5mm, Pitch 1.27mm, IPC Medium Density)
footprint TI-DW20_L (SOIC, 20-Leads, Body 12.8x7.5mm, Pitch 1.27mm, IPC High Density)
footprint TI-DW20_M (SOIC, 20-Leads, Body 12.8x7.5mm, Pitch 1.27mm, IPC Low Density)
pins: 1 ~{EN} (in), 2 C1+, 3 V+ (power), 4 C1-, 5 C2+, 6 C2-, 7 V- (power), 8 DOUT2 (hiz), 9 RIN2 (in), 10 ROUT2 (hiz), 11 NC, 12 DIN2 (in), 13 DIN1 (in), 14 NC, 15 ROUT1 (hiz), 16 RIN1 (in), 17 DOUT1 (hiz), 18 GND (power), 19 VCC (power), 20 ~{PWRDOWN} (in)

## MAX3222IDWE4
designator U?
3-V to 5.5-V Multichannel RS-232 Line Driver / Receiver with ±15-kV ESD Protection, -40 to 85 degC, 20-Pin SOIC (DW), Green (RoHS & no Sb/Br); Drivers Per Package: 2; Supply Voltage(s)(V): 3.3 or 5.0; ESD HBM(kV): +/-15; ICC(Max)(mA): 1; Single Supply: TRUE; DatasheetVersion: SLLS408G; PackageVersion: revG, Jan-2011; PackageReference: DW20; PackageDescription: 20-Pin Plastic Small Outline Integrated Circuit, 12.8 x 7.5 mm, Pitch 1.27 mm Pitch; SubFamily: RS-232; Receivers Per Package: 2; RS-232: TRUE; ComponentLink1Description: Manufacturer URL; ComponentLink1URL: www.ti.com; ComponentLink2Description: Datasheet; ComponentLink2URL: http://www.ti.com/general/docs/lit/getliterature.tsp?genericPartNumber=MAX3222&fileType=pdf; ComponentLink3Description: Package Specification; ComponentLink3URL: http://www.ti.com/litv/pdf/mpds173a
footprint TI-DW20_N (SOIC, 20-Leads, Body 12.8x7.5mm, Pitch 1.27mm, IPC Medium Density)
footprint TI-DW20_L (SOIC, 20-Leads, Body 12.8x7.5mm, Pitch 1.27mm, IPC High Density)
footprint TI-DW20_M (SOIC, 20-Leads, Body 12.8x7.5mm, Pitch 1.27mm, IPC Low Density)
pins: 1 ~{EN} (in), 2 C1+, 3 V+ (power), 4 C1-, 5 C2+, 6 C2-, 7 V- (power), 8 DOUT2 (hiz), 9 RIN2 (in), 10 ROUT2 (hiz), 11 NC, 12 DIN2 (in), 13 DIN1 (in), 14 NC, 15 ROUT1 (hiz), 16 RIN1 (in), 17 DOUT1 (hiz), 18 GND (power), 19 VCC (power), 20 ~{PWRDOWN} (in)

## MAX3222IDWG4
designator U?
3-V to 5.5-V Multichannel RS-232 Line Driver / Receiver with ±15-kV ESD Protection, -40 to 85 degC, 20-Pin SOIC (DW), Green (RoHS & no Sb/Br); Drivers Per Package: 2; Supply Voltage(s)(V): 3.3 or 5.0; ESD HBM(kV): +/-15; ICC(Max)(mA): 1; Single Supply: TRUE; DatasheetVersion: SLLS408G; PackageVersion: revG, Jan-2011; PackageReference: DW20; PackageDescription: 20-Pin Plastic Small Outline Integrated Circuit, 12.8 x 7.5 mm, Pitch 1.27 mm Pitch; SubFamily: RS-232; Receivers Per Package: 2; RS-232: TRUE; ComponentLink1Description: Manufacturer URL; ComponentLink1URL: www.ti.com; ComponentLink2Description: Datasheet; ComponentLink2URL: http://www.ti.com/general/docs/lit/getliterature.tsp?genericPartNumber=MAX3222&fileType=pdf; ComponentLink3Description: Package Specification; ComponentLink3URL: http://www.ti.com/litv/pdf/mpds173a
footprint TI-DW20_N (SOIC, 20-Leads, Body 12.8x7.5mm, Pitch 1.27mm, IPC Medium Density)
footprint TI-DW20_L (SOIC, 20-Leads, Body 12.8x7.5mm, Pitch 1.27mm, IPC High Density)
footprint TI-DW20_M (SOIC, 20-Leads, Body 12.8x7.5mm, Pitch 1.27mm, IPC Low Density)
pins: 1 ~{EN} (in), 2 C1+, 3 V+ (power), 4 C1-, 5 C2+, 6 C2-, 7 V- (power), 8 DOUT2 (hiz), 9 RIN2 (in), 10 ROUT2 (hiz), 11 NC, 12 DIN2 (in), 13 DIN1 (in), 14 NC, 15 ROUT1 (hiz), 16 RIN1 (in), 17 DOUT1 (hiz), 18 GND (power), 19 VCC (power), 20 ~{PWRDOWN} (in)

## MAX3222IDWR
designator U?
3-V to 5.5-V Multichannel RS-232 Line Driver / Receiver with ±15-kV ESD Protection, -40 to 85 degC, 20-Pin SOIC (DW), Green (RoHS & no Sb/Br); Drivers Per Package: 2; Supply Voltage(s)(V): 3.3 or 5.0; ESD HBM(kV): +/-15; ICC(Max)(mA): 1; Single Supply: TRUE; DatasheetVersion: SLLS408G; PackageVersion: revG, Jan-2011; PackageReference: DW20; PackageDescription: 20-Pin Plastic Small Outline Integrated Circuit, 12.8 x 7.5 mm, Pitch 1.27 mm Pitch; SubFamily: RS-232; Receivers Per Package: 2; RS-232: TRUE; ComponentLink1Description: Manufacturer URL; ComponentLink1URL: www.ti.com; ComponentLink2Description: Datasheet; ComponentLink2URL: http://www.ti.com/general/docs/lit/getliterature.tsp?genericPartNumber=MAX3222&fileType=pdf; ComponentLink3Description: Package Specification; ComponentLink3URL: http://www.ti.com/litv/pdf/mpds173a
footprint TI-DW20_N (SOIC, 20-Leads, Body 12.8x7.5mm, Pitch 1.27mm, IPC Medium Density)
footprint TI-DW20_L (SOIC, 20-Leads, Body 12.8x7.5mm, Pitch 1.27mm, IPC High Density)
footprint TI-DW20_M (SOIC, 20-Leads, Body 12.8x7.5mm, Pitch 1.27mm, IPC Low Density)
pins: 1 ~{EN} (in), 2 C1+, 3 V+ (power), 4 C1-, 5 C2+, 6 C2-, 7 V- (power), 8 DOUT2 (hiz), 9 RIN2 (in), 10 ROUT2 (hiz), 11 NC, 12 DIN2 (in), 13 DIN1 (in), 14 NC, 15 ROUT1 (hiz), 16 RIN1 (in), 17 DOUT1 (hiz), 18 GND (power), 19 VCC (power), 20 ~{PWRDOWN} (in)

## MAX3222IDWRE4
designator U?
3-V to 5.5-V Multichannel RS-232 Line Driver / Receiver with ±15-kV ESD Protection, -40 to 85 degC, 20-Pin SOIC (DW), Green (RoHS & no Sb/Br); Drivers Per Package: 2; Supply Voltage(s)(V): 3.3 or 5.0; ESD HBM(kV): +/-15; ICC(Max)(mA): 1; Single Supply: TRUE; DatasheetVersion: SLLS408G; PackageVersion: revG, Jan-2011; PackageReference: DW20; PackageDescription: 20-Pin Plastic Small Outline Integrated Circuit, 12.8 x 7.5 mm, Pitch 1.27 mm Pitch; SubFamily: RS-232; Receivers Per Package: 2; RS-232: TRUE; ComponentLink1Description: Manufacturer URL; ComponentLink1URL: www.ti.com; ComponentLink2Description: Datasheet; ComponentLink2URL: http://www.ti.com/general/docs/lit/getliterature.tsp?genericPartNumber=MAX3222&fileType=pdf; ComponentLink3Description: Package Specification; ComponentLink3URL: http://www.ti.com/litv/pdf/mpds173a
footprint TI-DW20_N (SOIC, 20-Leads, Body 12.8x7.5mm, Pitch 1.27mm, IPC Medium Density)
footprint TI-DW20_L (SOIC, 20-Leads, Body 12.8x7.5mm, Pitch 1.27mm, IPC High Density)
footprint TI-DW20_M (SOIC, 20-Leads, Body 12.8x7.5mm, Pitch 1.27mm, IPC Low Density)
pins: 1 ~{EN} (in), 2 C1+, 3 V+ (power), 4 C1-, 5 C2+, 6 C2-, 7 V- (power), 8 DOUT2 (hiz), 9 RIN2 (in), 10 ROUT2 (hiz), 11 NC, 12 DIN2 (in), 13 DIN1 (in), 14 NC, 15 ROUT1 (hiz), 16 RIN1 (in), 17 DOUT1 (hiz), 18 GND (power), 19 VCC (power), 20 ~{PWRDOWN} (in)

## MAX3222IDWRG4
designator U?
3-V to 5.5-V Multichannel RS-232 Line Driver / Receiver with ±15-kV ESD Protection, -40 to 85 degC, 20-Pin SOIC (DW), Green (RoHS & no Sb/Br); Drivers Per Package: 2; Supply Voltage(s)(V): 3.3 or 5.0; ESD HBM(kV): +/-15; ICC(Max)(mA): 1; Single Supply: TRUE; DatasheetVersion: SLLS408G; PackageVersion: revG, Jan-2011; PackageReference: DW20; PackageDescription: 20-Pin Plastic Small Outline Integrated Circuit, 12.8 x 7.5 mm, Pitch 1.27 mm Pitch; SubFamily: RS-232; Receivers Per Package: 2; RS-232: TRUE; ComponentLink1Description: Manufacturer URL; ComponentLink1URL: www.ti.com; ComponentLink2Description: Datasheet; ComponentLink2URL: http://www.ti.com/general/docs/lit/getliterature.tsp?genericPartNumber=MAX3222&fileType=pdf; ComponentLink3Description: Package Specification; ComponentLink3URL: http://www.ti.com/litv/pdf/mpds173a
footprint TI-DW20_N (SOIC, 20-Leads, Body 12.8x7.5mm, Pitch 1.27mm, IPC Medium Density)
footprint TI-DW20_L (SOIC, 20-Leads, Body 12.8x7.5mm, Pitch 1.27mm, IPC High Density)
footprint TI-DW20_M (SOIC, 20-Leads, Body 12.8x7.5mm, Pitch 1.27mm, IPC Low Density)
pins: 1 ~{EN} (in), 2 C1+, 3 V+ (power), 4 C1-, 5 C2+, 6 C2-, 7 V- (power), 8 DOUT2 (hiz), 9 RIN2 (in), 10 ROUT2 (hiz), 11 NC, 12 DIN2 (in), 13 DIN1 (in), 14 NC, 15 ROUT1 (hiz), 16 RIN1 (in), 17 DOUT1 (hiz), 18 GND (power), 19 VCC (power), 20 ~{PWRDOWN} (in)

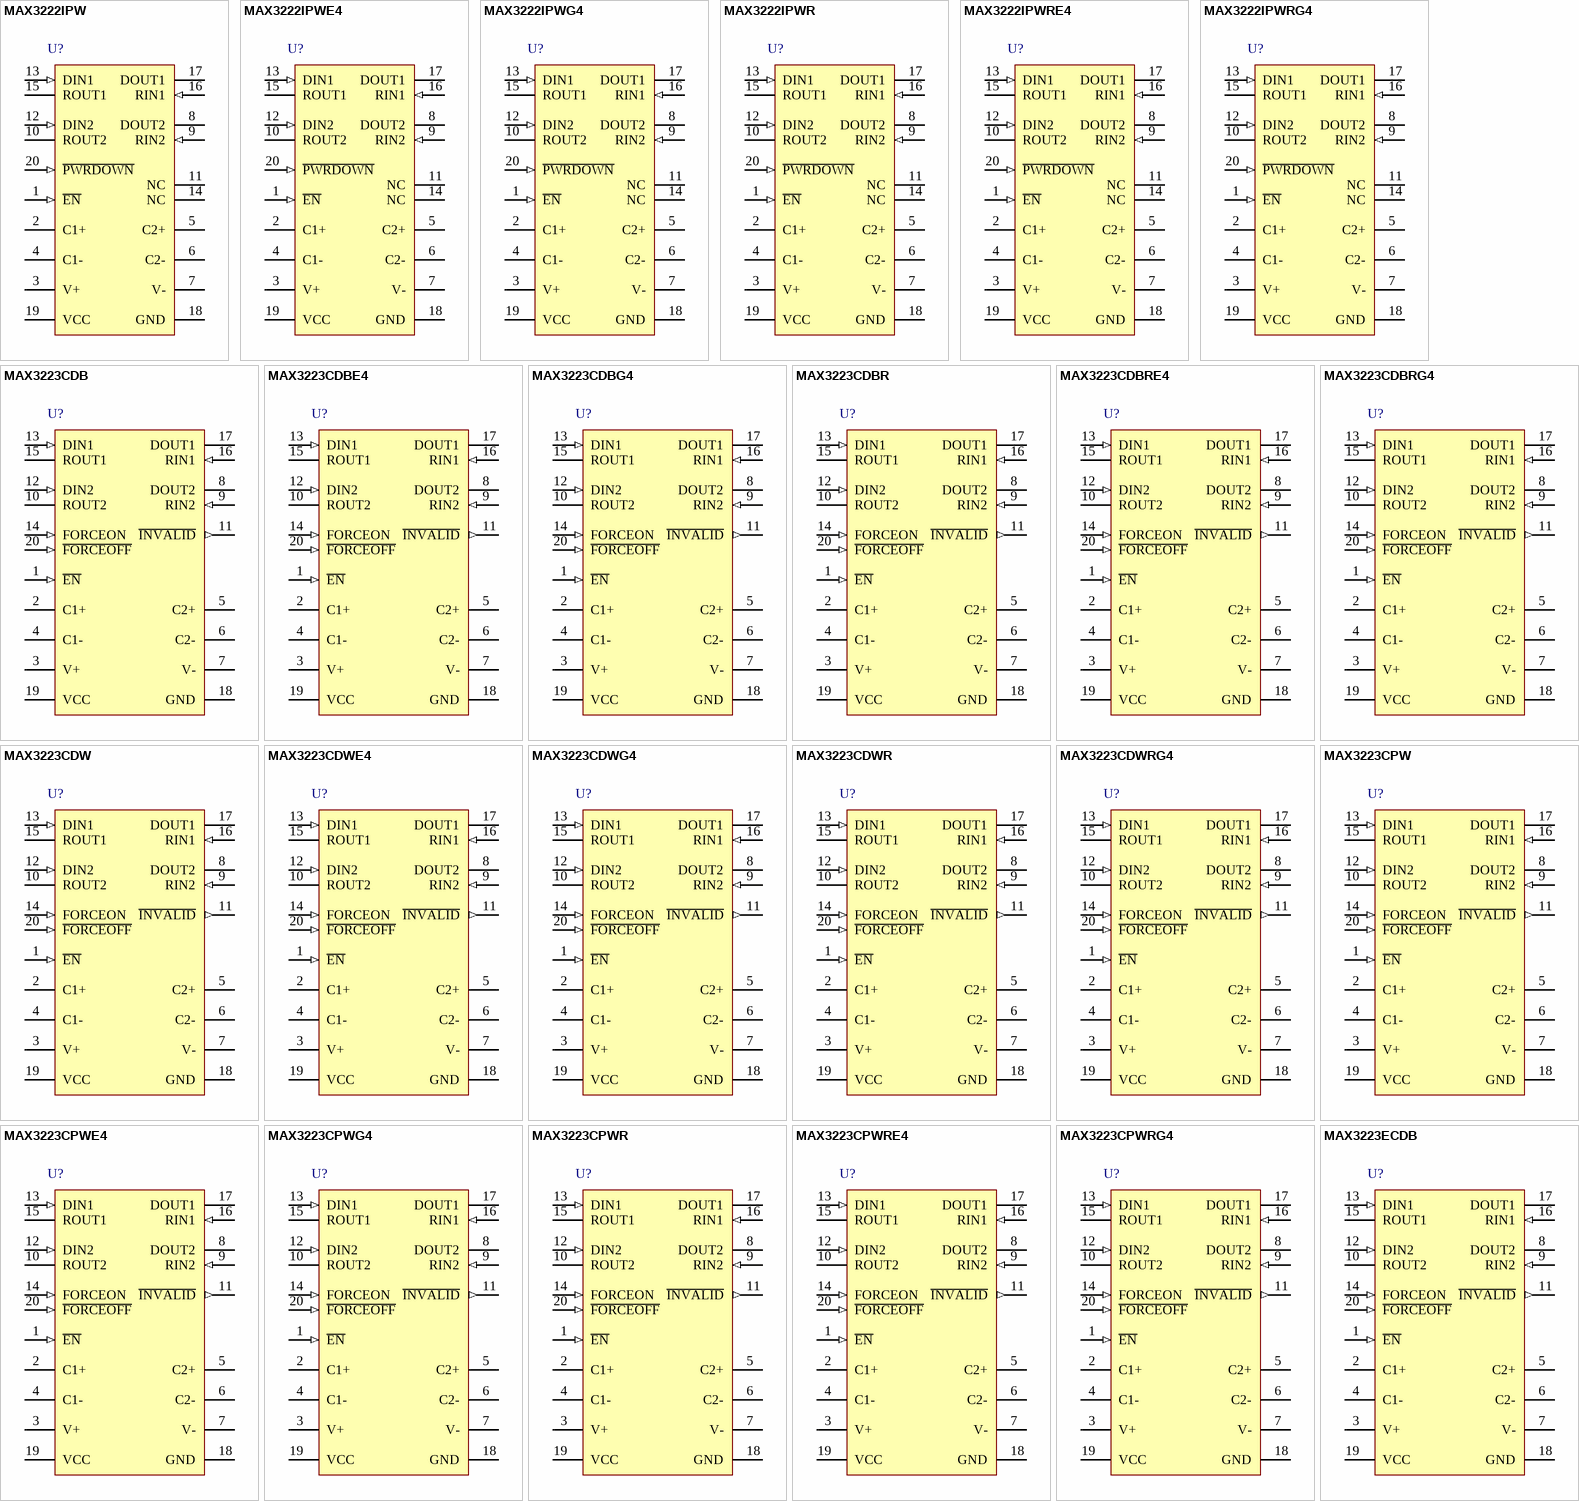
[diagram p12: symbols MAX3222IPW to MAX3223ECDB]

## MAX3222IPW
designator U?
3-V to 5.5-V Multichannel RS-232 Line Driver / Receiver with ±15-kV ESD Protection, -40 to 85 degC, 20-Pin TSSOP (PW), Green (RoHS & no Sb/Br); Drivers Per Package: 2; Supply Voltage(s)(V): 3.3 or 5.0; ESD HBM(kV): +/-15; ICC(Max)(mA): 1; Single Supply: TRUE; DatasheetVersion: SLLS408G; PackageVersion: revG, Feb-2011; PackageReference: PW20; PackageDescription: 20-Pin Plastic Thin Small Outline Package 6.5 x 4.4 mm Body ,0.65 mm Pitch; SubFamily: RS-232; Receivers Per Package: 2; RS-232: TRUE; ComponentLink1Description: Manufacturer URL; ComponentLink1URL: www.ti.com; ComponentLink2Description: Datasheet; ComponentLink2URL: http://www.ti.com/general/docs/lit/getliterature.tsp?genericPartNumber=MAX3222&fileType=pdf; ComponentLink3Description: Package Specification; ComponentLink3URL: http://www.ti.com/litv/pdf/mpds362
footprint TI-PW20_N (TSOP, 20-Leads, Body 6.5x4.4mm, Pitch 0.65mm, IPC Medium Density)
footprint TI-PW20_L (TSOP, 20-Leads, Body 6.5x4.4mm, Pitch 0.65mm, IPC High Density)
footprint TI-PW20_M (TSOP, 20-Leads, Body 6.5x4.4mm, Pitch 0.65mm, IPC Low Density)
pins: 1 ~{EN} (in), 2 C1+, 3 V+ (power), 4 C1-, 5 C2+, 6 C2-, 7 V- (power), 8 DOUT2 (hiz), 9 RIN2 (in), 10 ROUT2 (hiz), 11 NC, 12 DIN2 (in), 13 DIN1 (in), 14 NC, 15 ROUT1 (hiz), 16 RIN1 (in), 17 DOUT1 (hiz), 18 GND (power), 19 VCC (power), 20 ~{PWRDOWN} (in)

## MAX3222IPWE4
designator U?
3-V to 5.5-V Multichannel RS-232 Line Driver / Receiver with ±15-kV ESD Protection, -40 to 85 degC, 20-Pin TSSOP (PW), Green (RoHS & no Sb/Br); Drivers Per Package: 2; Supply Voltage(s)(V): 3.3 or 5.0; ESD HBM(kV): +/-15; ICC(Max)(mA): 1; Single Supply: TRUE; DatasheetVersion: SLLS408G; PackageVersion: revG, Feb-2011; PackageReference: PW20; PackageDescription: 20-Pin Plastic Thin Small Outline Package 6.5 x 4.4 mm Body ,0.65 mm Pitch; SubFamily: RS-232; Receivers Per Package: 2; RS-232: TRUE; ComponentLink1Description: Manufacturer URL; ComponentLink1URL: www.ti.com; ComponentLink2Description: Datasheet; ComponentLink2URL: http://www.ti.com/general/docs/lit/getliterature.tsp?genericPartNumber=MAX3222&fileType=pdf; ComponentLink3Description: Package Specification; ComponentLink3URL: http://www.ti.com/litv/pdf/mpds362
footprint TI-PW20_N (TSOP, 20-Leads, Body 6.5x4.4mm, Pitch 0.65mm, IPC Medium Density)
footprint TI-PW20_L (TSOP, 20-Leads, Body 6.5x4.4mm, Pitch 0.65mm, IPC High Density)
footprint TI-PW20_M (TSOP, 20-Leads, Body 6.5x4.4mm, Pitch 0.65mm, IPC Low Density)
pins: 1 ~{EN} (in), 2 C1+, 3 V+ (power), 4 C1-, 5 C2+, 6 C2-, 7 V- (power), 8 DOUT2 (hiz), 9 RIN2 (in), 10 ROUT2 (hiz), 11 NC, 12 DIN2 (in), 13 DIN1 (in), 14 NC, 15 ROUT1 (hiz), 16 RIN1 (in), 17 DOUT1 (hiz), 18 GND (power), 19 VCC (power), 20 ~{PWRDOWN} (in)

## MAX3222IPWG4
designator U?
3-V to 5.5-V Multichannel RS-232 Line Driver / Receiver with ±15-kV ESD Protection, -40 to 85 degC, 20-Pin TSSOP (PW), Green (RoHS & no Sb/Br); Drivers Per Package: 2; Supply Voltage(s)(V): 3.3 or 5.0; ESD HBM(kV): +/-15; ICC(Max)(mA): 1; Single Supply: TRUE; DatasheetVersion: SLLS408G; PackageVersion: revG, Feb-2011; PackageReference: PW20; PackageDescription: 20-Pin Plastic Thin Small Outline Package 6.5 x 4.4 mm Body ,0.65 mm Pitch; SubFamily: RS-232; Receivers Per Package: 2; RS-232: TRUE; ComponentLink1Description: Manufacturer URL; ComponentLink1URL: www.ti.com; ComponentLink2Description: Datasheet; ComponentLink2URL: http://www.ti.com/general/docs/lit/getliterature.tsp?genericPartNumber=MAX3222&fileType=pdf; ComponentLink3Description: Package Specification; ComponentLink3URL: http://www.ti.com/litv/pdf/mpds362
footprint TI-PW20_N (TSOP, 20-Leads, Body 6.5x4.4mm, Pitch 0.65mm, IPC Medium Density)
footprint TI-PW20_L (TSOP, 20-Leads, Body 6.5x4.4mm, Pitch 0.65mm, IPC High Density)
footprint TI-PW20_M (TSOP, 20-Leads, Body 6.5x4.4mm, Pitch 0.65mm, IPC Low Density)
pins: 1 ~{EN} (in), 2 C1+, 3 V+ (power), 4 C1-, 5 C2+, 6 C2-, 7 V- (power), 8 DOUT2 (hiz), 9 RIN2 (in), 10 ROUT2 (hiz), 11 NC, 12 DIN2 (in), 13 DIN1 (in), 14 NC, 15 ROUT1 (hiz), 16 RIN1 (in), 17 DOUT1 (hiz), 18 GND (power), 19 VCC (power), 20 ~{PWRDOWN} (in)